# Altium footprint library rcl.PCBLIB: 489 footprints (part 14 of 31)
Each footprint in its own frame and in the unit in brackets; x right, y up, seen from the top. Pads: shape width x height; smd on the part's side, far side on the other; paste and mask are expansions set on the pad; w line width, h text height; cw(c..) or ccw(c..) is an arc to the next point about the centre after c.
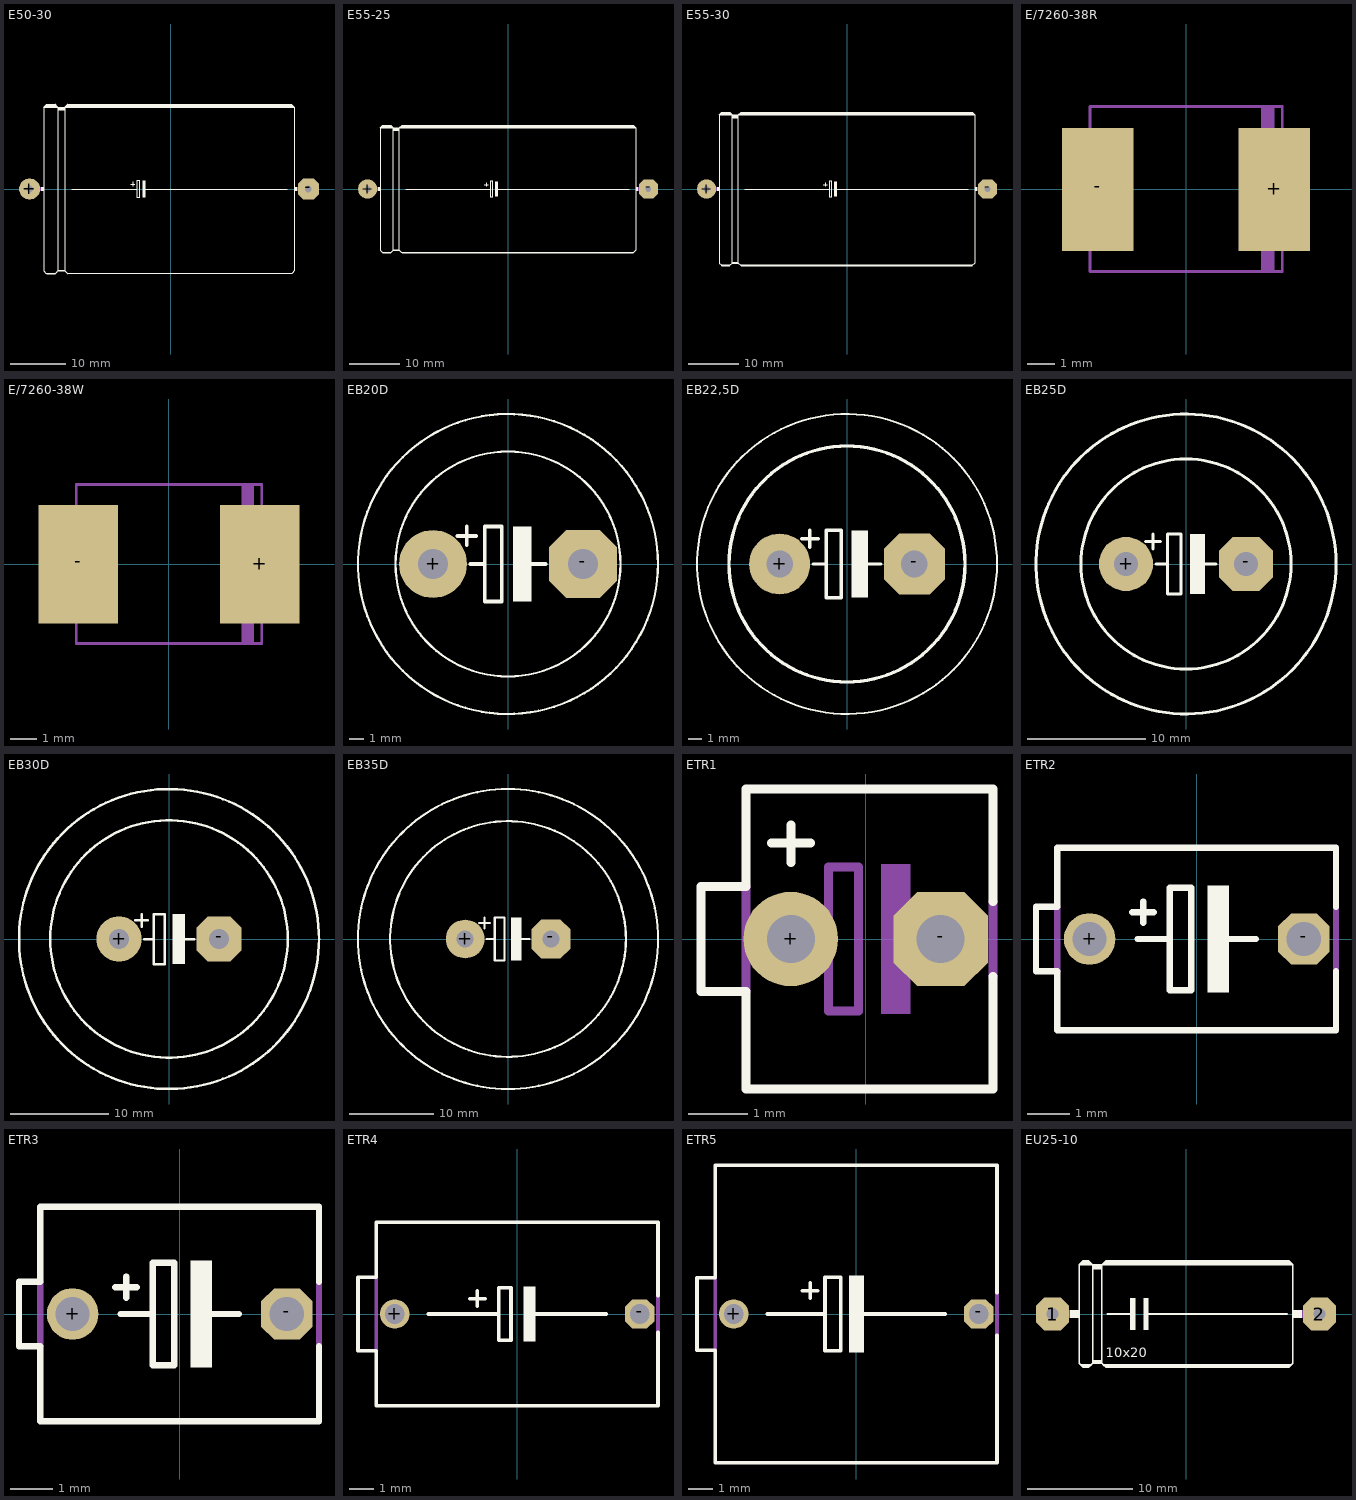
[diagram p13: the footprints below, top view; thin cyan lines are the x and y axes]

## E50-30 [mil]
pads (2):
  round 150 hole 47: +(-1000,0)
  oct 150x150 hole 47: -(975,0)
Top Overlay:
  rectangle: -200,-60 -180,60
  rectangle: 875,-15 895,15
  rectangle: -920,-15 -900,15
  lines w6: -820,-598 -880,-598 -880,-600 ; -700,0 -240,0 ; -285,35 -255,35 ; -270,20 -270,50 ; -185,0 825,0 ; 855,-598 -730,-598 -730,-600 ; -900,580 -880,600 -820,600 -800,580 ; -900,580 -900,-580 -885,-595 ; -900,580 -800,580 ; -885,-595 -815,-595 ; -885,-595 -880,-600 ; -880,-600 -820,-600 -815,-595 ; -815,-595 -800,-580 ; -800,-580 -750,-580 ; -800,-580 -800,-578 ; -800,-578 -800,-575 ; -800,-578 -750,-578 ; -800,-575 -800,560 ; -800,-575 -750,-575 ; -800,560 -800,580 ; -800,560 -750,560 ; -800,580 -750,580 ; -750,-580 -735,-595 ; -750,-580 -750,-578 ; -750,-578 -750,-575 ; -750,-575 -750,560 ; -750,560 -750,580 ; -750,580 -730,600 855,600 875,580 ; -750,580 875,580 ; -735,-595 860,-595 ; -735,-595 -730,-600 ; -730,-600 855,-600 860,-595 ; -240,0 -240,60 -220,60 -220,-60 -240,-60 -240,0 ; 860,-595 875,-580 875,580
  lines w12: -890,585 -885,585 ; -885,590 -885,585 ; -880,595 -820,595 ; -815,590 -815,585 ; -810,585 -815,585 ; -795,565 -755,565 ; -795,575 -755,575 ; -740,585 -735,585 ; -735,590 -735,585 ; -730,595 855,595 ; 865,585 -735,585 ; -885,585 -815,585
Mechanical 16:
  lines w30: -1000,0 -925,0 ; 900,0 975,0

## E55-25 [mil]
pads (2):
  round 150 hole 44: +(-1100,0)
  oct 150x150 hole 44: -(1100,0)
Top Overlay:
  rectangle: -100,-60 -80,60
  rectangle: 1000,-15 1020,15
  rectangle: -1020,-15 -1000,15
  lines w6: -920,-498 -980,-498 -980,-500 ; -800,0 -140,0 ; -185,35 -155,35 ; -170,20 -170,50 ; -85,0 950,0 ; 980,-498 -830,-498 -830,-500 ; -1000,480 -980,500 -920,500 -900,480 ; -1000,480 -1000,-480 -985,-495 ; -1000,480 -900,480 ; -985,-495 -915,-495 ; -985,-495 -980,-500 ; -980,-500 -920,-500 -915,-495 ; -915,-495 -900,-480 ; -900,-480 -850,-480 ; -900,-480 -900,-478 ; -900,-478 -850,-478 ; -900,-478 -900,-475 ; -900,-475 -850,-475 ; -900,-475 -900,460 ; -900,460 -900,480 ; -900,460 -850,460 ; -900,480 -850,480 ; -850,-480 -850,-478 ; -850,-480 -835,-495 ; -850,-478 -850,-475 ; -850,-475 -850,460 ; -850,460 -850,480 ; -850,480 -830,500 980,500 1000,480 ; -850,480 1000,480 ; -835,-495 -830,-500 ; -835,-495 985,-495 ; -830,-500 980,-500 985,-495 ; -140,0 -140,60 -120,60 -120,-60 -140,-60 -140,0 ; 985,-495 1000,-480 1000,480
  lines w12: -990,485 -910,485 ; -980,495 -920,495 ; -895,465 -855,465 ; -895,475 -855,475 ; -840,485 990,485 ; -830,495 980,495
Mechanical 16:
  lines w30: -1100,0 -1025,0 ; 1025,0 1100,0

## E55-30 [mil]
pads (2):
  round 150 hole 47: +(-1100,0)
  oct 150x150 hole 47: -(1100,0)
Top Overlay:
  rectangle: -100,-60 -80,60
  rectangle: 1000,-15 1020,15
  rectangle: -1020,-15 -1000,15
  lines w6: -920,-598 -980,-598 -980,-600 ; -800,0 -140,0 ; -185,35 -155,35 ; -170,20 -170,50 ; -85,0 950,0 ; 980,-598 -830,-598 -830,-600 ; -1000,580 -980,600 -920,600 -900,580 ; -1000,580 -1000,-580 -985,-595 ; -1000,580 -900,580 ; -985,-595 -915,-595 ; -985,-595 -980,-600 ; -980,-600 -920,-600 -915,-595 ; -915,-595 -900,-580 ; -900,-580 -850,-580 ; -900,-580 -900,-578 ; -900,-578 -850,-578 ; -900,-578 -900,-575 ; -900,-575 -850,-575 ; -900,-575 -900,560 ; -900,560 -900,580 ; -900,560 -850,560 ; -900,580 -850,580 ; -850,-580 -850,-578 ; -850,-580 -835,-595 ; -850,-578 -850,-575 ; -850,-575 -850,560 ; -850,560 -850,580 ; -850,580 -830,600 980,600 1000,580 ; -850,580 1000,580 ; -835,-595 -830,-600 ; -835,-595 985,-595 ; -830,-600 980,-600 985,-595 ; -140,0 -140,60 -120,60 -120,-60 -140,-60 -140,0 ; 985,-595 1000,-580 1000,580
  lines w12: -990,585 -910,585 ; -980,595 -920,595 ; -895,565 -855,565 ; -895,575 -855,575 ; -840,585 990,585 ; -830,595 980,595
Mechanical 16:
  lines w30: -1100,0 -1025,0 ; 1025,0 1100,0

## E/7260-38R [mil]
pads (2):
  rect 101x174 smd: +(125,0) -(-125,0)
Mechanical 16:
  rectangle: -143.7,-80.71 -137.8,81
  rectangle: 138,-80.71 144,81
  rectangle: 106,-117.13 125,118
  lines w4: -135.83,-116.14 136,-116.14 136,117 -135.83,117 -135.83,-116.14

## E/7260-38W [mil]
pads (2):
  rect 117x174 smd: +(133,0) -(-132.87,0)
Mechanical 16:
  rectangle: -143.7,-80.71 -137.8,81
  rectangle: 138,-80.71 144,81
  rectangle: 106,-117.13 125,118
  lines w4: -135.83,-116.14 136,-116.14 136,117 -135.83,117 -135.83,-116.14

## EB20D [mil]
pads (2):
  round 181 hole 79: +(-200,0)
  oct 181x181 hole 79: -(200,0)
Top Overlay:
  circle w6: c0,0 r400
  circle w6: c0,0 r300
  rectangle: 13,-100 63,100
  lines w10: -135,75 -85,75 ; -110,50 -110,100 ; -100,0 -62,0 ; 25,0 100,0 ; -62,0 -62,100 -17,100 -17,-100 -62,-100 -62,0

## EB22,5D [mil]
pads (2):
  round 181 hole 79: +(-200,0)
  oct 181x181 hole 79: -(200,0)
Top Overlay:
  circle w10: c0,0 r350
  circle w6: c0,0 r445
  rectangle: 13,-100 63,100
  lines w10: -135,75 -85,75 ; -110,50 -110,100 ; -100,0 -62,0 ; 25,0 100,0 ; -62,0 -62,100 -17,100 -17,-100 -62,-100 -62,0

## EB25D [mil]
pads (2):
  round 181 hole 79: +(-200,0)
  oct 181x181 hole 79: -(200,0)
Top Overlay:
  circle w10: c0,0 r500
  circle w10: c0,0 r350
  rectangle: 13,-100 63,100
  lines w10: -135,75 -85,75 ; -110,50 -110,100 ; -100,0 -62,0 ; 25,0 100,0 ; -62,0 -62,100 -17,100 -17,-100 -62,-100 -62,0

## EB30D [mil]
pads (2):
  round 181 hole 79: +(-200,0)
  oct 181x181 hole 79: -(200,0)
Top Overlay:
  circle w10: c0,0 r600
  circle w10: c0,0 r475
  rectangle: 13,-100 63,100
  lines w10: -135,75 -85,75 ; -110,50 -110,100 ; -100,0 -62,0 ; 25,0 100,0 ; -62,0 -62,100 -17,100 -17,-100 -62,-100 -62,0

## EB35D [mil]
pads (2):
  round 181 hole 79: +(-200,0)
  oct 181x181 hole 79: -(200,0)
Top Overlay:
  circle w10: c0,0 r700
  circle w10: c0,0 r550
  rectangle: 13,-100 63,100
  lines w10: -135,75 -85,75 ; -110,50 -110,100 ; -100,0 -62,0 ; 55,0 100,0 ; -62,0 -62,100 -17,100 -17,-100 -62,-100 -62,0

## ETR1 [mil]
pads (2):
  round 63 hole 32: +(-50,0)
  oct 63x63 hole 32: -(50,0)
Top Overlay:
  lines w6: -63,64 -37,64 ; -50,51 -50,76 ; 85,-25 85,-100 -80,-100 -80,-35 -110,-35 -110,35 -80,35 -80,100 85,100 85,25
Mechanical 16:
  rectangle: 10,-50 30,50
  lines w6: -80,-35 -80,35 ; -65,0 -25,0 ; 25,0 65,0 ; 85,-25 85,25 ; -25,0 -25,-48 -5,-48 -5,48 -25,48 -25,0

## ETR2 [mil]
pads (2):
  round 48 hole 32: +(-100,0)
  oct 48x48 hole 32: -(100,0)
Top Overlay:
  rectangle: 10,-50 30,50
  lines w6: -60,25 -40,25 ; -55,0 -25,0 ; -50,15 -50,35 ; 25,0 55,0 ; 130,-30 130,-85 -130,-85 -130,-30 -150,-30 -150,30 -130,30 -130,85 130,85 130,30 ; -25,0 -25,-48 -5,-48 -5,48 -25,48 -25,0
Mechanical 16:
  lines w6: -130,-30 -130,30 ; 130,-30 130,30

## ETR3 [mil]
pads (2):
  round 48 hole 32: +(-100,0)
  oct 48x48 hole 32: -(100,0)
Top Overlay:
  rectangle: 10,-50 30,50
  lines w6: -60,25 -40,25 ; -55,0 -25,0 ; -50,15 -50,35 ; 25,0 55,0 ; 130,-30 130,-100 -130,-100 -130,-30 -150,-30 -150,30 -130,30 -130,100 130,100 130,30 ; -25,0 -25,-48 -5,-48 -5,48 -25,48 -25,0
Mechanical 16:
  lines w6: -130,-30 -130,30 ; 130,-30 130,30

## ETR4 [mil]
pads (2):
  round 48 hole 32: +(-200,0)
  oct 48x48 hole 32: -(200,0)
Top Overlay:
  rectangle: 10,-45 30,45
  lines w6: -145,0 -30,0 ; -77,25 -52,25 ; -65,13 -65,38 ; 20,0 145,0 ; 230,-30 230,-150 -230,-150 -230,-60 -260,-60 -260,60 -230,60 -230,150 230,150 230,30 ; -30,0 -30,43 -10,43 -10,-43 -30,-43 -30,0
Mechanical 16:
  lines w6: -230,-60 -230,60 ; 230,-30 230,30

## ETR5 [mil]
pads (2):
  round 48 hole 32: +(-200,0)
  oct 48x48 hole 32: -(200,0)
Top Overlay:
  rectangle: -12,-63 13,63
  lines w6: -145,0 -51,0 ; -88,38 -63,38 ; -75,26 -75,51 ; 0,0 145,0 ; 230,-35 230,-243 -230,-243 -230,-59 -260,-59 -260,59 -230,59 -230,243 230,243 230,35 ; -51,0 -51,60 -25,60 -25,-60 -51,-60 -51,0
Mechanical 16:
  lines w6: -230,-59 -230,59 ; 230,-35 230,35

## EU25-10 [mil]
pads (2):
  oct 124x124 hole 44: 1(-500,0) 2(500,0)
Top Overlay:
  rectangle: -160,-60 -140,60
  rectangle: -435,-15 -400,15
  rectangle: 400,-15 435,15
  rectangle: -210,-60 -190,60
  lines w6: -295,0 -200,0 ; -145,0 380,0 ; -400,185 -400,-185 -395,-190 ; -400,185 -385,200 -365,200 -350,185 ; -400,185 -350,185 ; -395,-190 -355,-190 ; -395,-190 -385,-200 -365,-200 -355,-190 ; -355,-190 -350,-185 ; -350,-185 -350,-175 ; -350,-185 -315,-185 ; -350,-175 -315,-175 ; -350,-175 -350,170 ; -350,170 -350,185 ; -350,170 -315,170 ; -350,185 -315,185 ; -315,-185 -310,-190 ; -315,-185 -315,-175 ; -315,-175 -315,170 ; -315,170 -315,185 ; -315,185 -300,200 385,200 400,185 ; -315,185 400,185 ; -310,-190 -300,-200 385,-200 395,-190 ; -310,-190 395,-190 ; 395,-190 400,-185 400,185
  lines w10: -385,-195 -365,-195 ; -345,-180 -320,-180 ; -300,-195 385,-195
  lines w12: -390,190 -360,190 ; -385,195 -365,195 ; -345,175 -320,175 ; -345,180 -320,180 ; -305,190 390,190 ; -300,195 385,195
  text "10x20" at -300,-175 h60.45
Mechanical 16:
  lines w30: -500,0 -435,0 ; 435,0 500,0